# Altium footprint library 4-C-Tan+SMT.PcbLib: 75 footprints (part 5 of 5)
Each footprint in its own frame and in the unit in brackets; x right, y up, seen from the top. Pads: shape width x height; smd on the part's side, far side on the other; paste and mask are expansions set on the pad; w line width, h text height; cw(c..) or ccw(c..) is an arc to the next point about the centre after c.
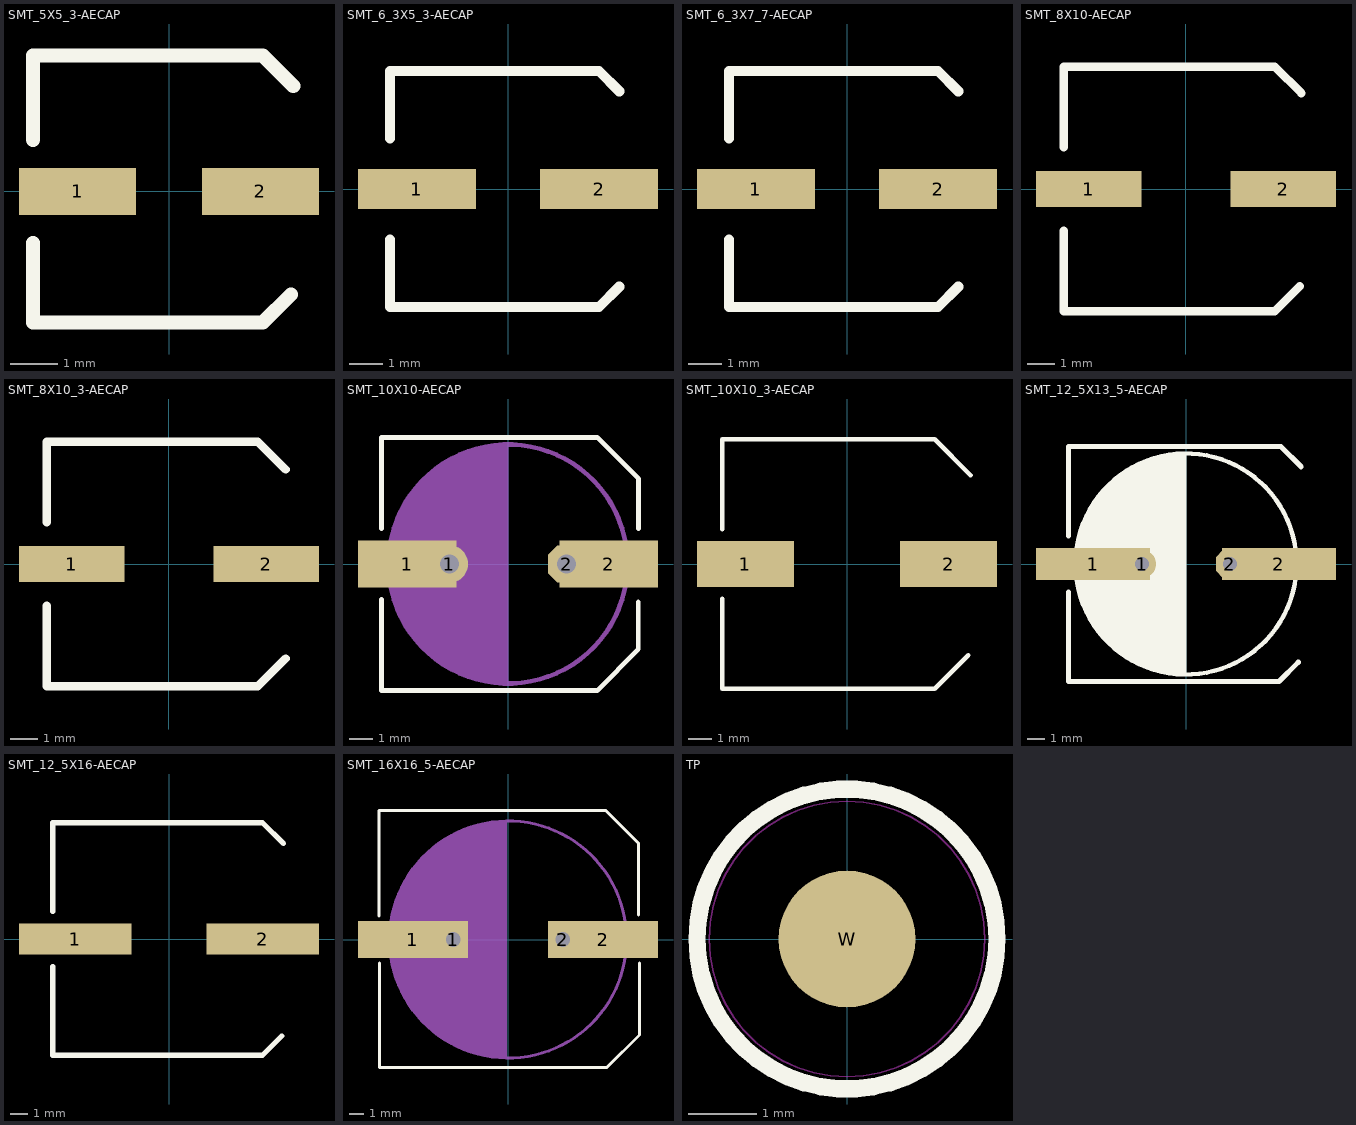
[diagram p4: the footprints below, top view; thin cyan lines are the x and y axes]

## SMT_5X5_3-AECAP [mm]
pads (2):
  rect 2.5x1 smd: 1(-1.95,0) 2(1.95,0)
Top Overlay:
  lines w0.3: -2.9,-1.1 -2.9,-2.8 2,-2.8 2.6,-2.2 ; -2.9,1.1 -2.9,2.9 2,2.9 2.65,2.25
3D body "3d_5x5_3-aecap.stp": height 5.66, standoff 0, extent -2.7,-2.6 2.7,2.7
3D body "p250-100.stp": height 0.02, standoff 0, extent -3.25,-0.5 -0.75,0.5
3D body "p250-100.stp": height 0.02, standoff 0, extent 0.75,-0.5 3.25,0.5

## SMT_6_3X5_3-AECAP [mm]
pads (2):
  rect 3.5x1.2 smd: 1(-2.7,0) 2(2.7,0)
Top Overlay:
  lines w0.3: -3.5,-1.5 -3.5,-3.5 2.7,-3.5 3.3,-2.9 ; -3.5,1.5 -3.5,3.5 2.7,3.5 3.3,2.9
3D body "p350-120.stp": height 0.02, standoff 0, extent 0.95,-0.6 4.45,0.6
3D body "p350-120.stp": height 0.02, standoff 0, extent -4.45,-0.6 -0.95,0.6
3D body "3d_6_3x5_3-aecap.stp": height 5.3, standoff 0, extent -4.1,-3.3 4.1,3.3

## SMT_6_3X7_7-AECAP [mm]
pads (2):
  rect 3.5x1.2 smd: 1(-2.7,0) 2(2.7,0)
Top Overlay:
  lines w0.3: -3.5,-1.5 -3.5,-3.5 2.7,-3.5 3.3,-2.9 ; -3.5,1.5 -3.5,3.5 2.7,3.5 3.3,2.9
3D body "3d_6_3x7_7-aecap.stp": height 7.7, standoff 0, extent -4.1,-3.3 4.1,3.3
3D body "p350-120.stp": height 0.02, standoff 0, extent 0.95,-0.6 4.45,0.6
3D body "p350-120.stp": height 0.02, standoff 0, extent -4.45,-0.6 -0.95,0.6

## SMT_8X10-AECAP [mm]
pads (2):
  rect 3.8x1.3 smd: 1(-3.5,0) 2(3.5,0)
Top Overlay:
  lines w0.3: -4.4,-1.5 -4.4,-4.4 3.2,-4.4 4.1,-3.5 ; -4.4,1.5 -4.4,4.4 3.2,4.4 4.15,3.45
3D body "3d_8x10-aecap.stp": height 10, standoff 0, extent -4.95,-4.2 4.95,4.2
3D body "p380-130.stp": height 0.02, standoff 0, extent 1.6,-0.65 5.4,0.65
3D body "p380-130.stp": height 0.02, standoff 0, extent -5.4,-0.65 -1.6,0.65

## SMT_8X10_3-AECAP [mm]
pads (2):
  rect 3.8x1.3 smd: 1(-3.5,0) 2(3.5,0)
Top Overlay:
  lines w0.3: -4.4,-1.5 -4.4,-4.4 3.2,-4.4 4.2,-3.4 ; -4.4,1.5 -4.4,4.4 3.2,4.4 4.2,3.4
3D body "3d_8x10_3-aecap.stp": height 10.3, standoff 0, extent -4.9,-4.2 5,4.2
3D body "p380-130.stp": height 0.02, standoff 0, extent 1.6,-0.65 5.4,0.65
3D body "p380-130.stp": height 0.02, standoff 0, extent -5.4,-0.65 -1.6,0.65

## SMT_10X10-AECAP [mm]
height 3.8
pads (4):
  rect 4.2x2 smd: 1(-4.3,0) 2(4.3,0)
  round 1.6 hole 0.8 mask+0.051: 1(-2.5,0)
  oct 1.6x1.6 hole 0.8 mask+0.051: 2(2.5,0)
Top Overlay:
  lines w0.2: -5.4,-1.5 -5.4,-5.4 3.8,-5.4 5.56,-3.64 5.56,-1.62 ; -5.4,1.5 -5.4,5.4 3.8,5.4 5.57,3.63 5.57,1.51
Mechanical 15:
  circle w0.2: c0,0 r5.1
  region: 0.02,-5.1 0.02,5.12 -1.5,4.87 -2.85,4.28 -4.2,2.91 -4.88,1.43 -5.11,0.45 -5.05,-0.69 -4.61,-2.34 -3.49,-3.77 -2.03,-4.67 -1.02,-4.99
3D body "3d_10x10_3-aecap.stp": height 10.3, standoff 0, extent -6.01,-5.23 6.09,5.17
3D body "f2-4_2.stp": height 0.1, standoff 0, extent -6.43,-1.02 -2.23,0.98
3D body "f2-4_2.stp": height 0.1, standoff 0, extent 2.19,-0.99 6.39,1.01

## SMT_10X10_3-AECAP [mm]
pads (2):
  rect 4.2x2 smd: 1(-4.4,0) 2(4.4,0)
Top Overlay:
  lines w0.2: -5.4,-1.5 -5.4,-5.4 3.8,-5.4 5.25,-3.95 ; -5.4,1.5 -5.4,5.4 3.8,5.4 5.35,3.85
3D body "3d_10x10_3-aecap.stp": height 10.3, standoff 0, extent -6,-5.2 6.1,5.2
3D body "p420-200.stp": height 0.02, standoff 0, extent -6.5,-1 -2.3,1
3D body "p420-200.stp": height 0.02, standoff 0, extent 2.3,-1 6.5,1

## SMT_12_5X13_5-AECAP [mm]
pads (4):
  rect 6.5x1.8 smd: 1(-5.3,0) 2(5.3,0)
  round 1.6 hole 0.8 mask+0.051: 1(-2.5,0)
  oct 1.6x1.6 hole 0.8 mask+0.051: 2(2.5,0)
Top Overlay:
  circle w0.254: c0,0 r6.3
  region: 0,-6.3 0,6.29 0.01,6.3 -1.68,6.09 -2.98,5.51 -4.1,4.76 -5.18,3.71 -6.01,1.9 -6.26,0.88 -6.31,-0.88 -5.97,-1.98 -5.27,-3.56 -3.9,-5 -1.98,-6.02 -0.69,-6.25 0.02,-6.31
  lines w0.3: -6.7,-1.6 -6.7,-6.7 5.3,-6.7 6.4,-5.6 ; -6.7,1.6 -6.7,6.7 5.4,6.7 6.55,5.55
3D body "3d_12_5x16-aecap.stp": height 16.01, standoff 0, extent -7.89,-6.58 8.11,6.42
3D body "p440-180.stp": height 0.02, standoff 0, extent 4.2,-0.9 8.6,0.9
3D body "p440-180.stp": height 0.02, standoff 0, extent -8.6,-0.9 -4.2,0.9

## SMT_12_5X16-AECAP [mm]
pads (2):
  rect 6.5x1.8 smd: 1(-5.4,0) 2(5.4,0)
Top Overlay:
  lines w0.3: -6.7,-1.6 -6.7,-6.7 5.4,-6.7 6.5,-5.6 ; -6.7,1.6 -6.7,6.7 5.4,6.7 6.6,5.5
3D body "p240-180.stp": height 0.02, standoff 0, extent -8.7,-0.9 -6.3,0.9
3D body "p240-180.stp": height 0.02, standoff 0, extent 6.3,-0.9 8.7,0.9
3D body "3d_12_5x16-aecap.stp": height 16.01, standoff 0, extent -8,-6.5 8,6.5

## SMT_16X16_5-AECAP [mm]
height 3.8
pads (4):
  rect 7.5x2.5 smd: 1(-6.5,0) 2(6.5,0)
  round 2 hole 1 mask+0.051: 1(-3.75,0)
  oct 2x2 hole 1 mask+0.051: 2(3.75,0)
Top Overlay:
  lines w0.2: -8.82,1.6 -8.82,8.82 6.68,8.82 8.93,6.57 8.93,1.68 ; -8.77,-1.6 -8.77,-8.75 6.75,-8.75 8.98,-6.52 8.98,-1.61
Mechanical 15:
  circle w0.2: c0,0 r8.1
  region: -0.07,-8.11 -0.07,8.13 -2,7.84 -3.72,7.19 -5.27,6.16 -6.54,4.8 -7.43,3.33 -7.9,1.73 -8.13,0.25 -7.89,-1.95 -7.15,-3.76 -6.29,-5.09 -4.72,-6.65 -2.65,-7.66 -1.34,-8.01
3D body "f2_5-7_5.stp": height 0.1, standoff 0, extent 2.74,-1.24 10.24,1.26
3D body "f2_5-7_5.stp": height 0.1, standoff 0, extent -10.3,-1.22 -2.8,1.28
3D body "3d_16x16_5-aecap.stp": height 16.51, standoff 0, extent -9.88,-8.49 10.12,8.51

## TP [mm]
height 11.7
pads (1):
  round 2 smd mask+1: W(0,0)
Top Overlay:
  circle w0.254: c0,0 r2.195
Keep-Out Layer:
  circle w0.025: c0,0 r2.017
3D body "1_016-1_016-3_tp.stp": height 0.02, standoff 0, extent -1.5,-1.5 1.5,1.5